# Altium integrated library Linear Technology PMIC-Switching Reg LTC1174-LTC3901.IntLib: 2647 symbols (part 301 of 310)
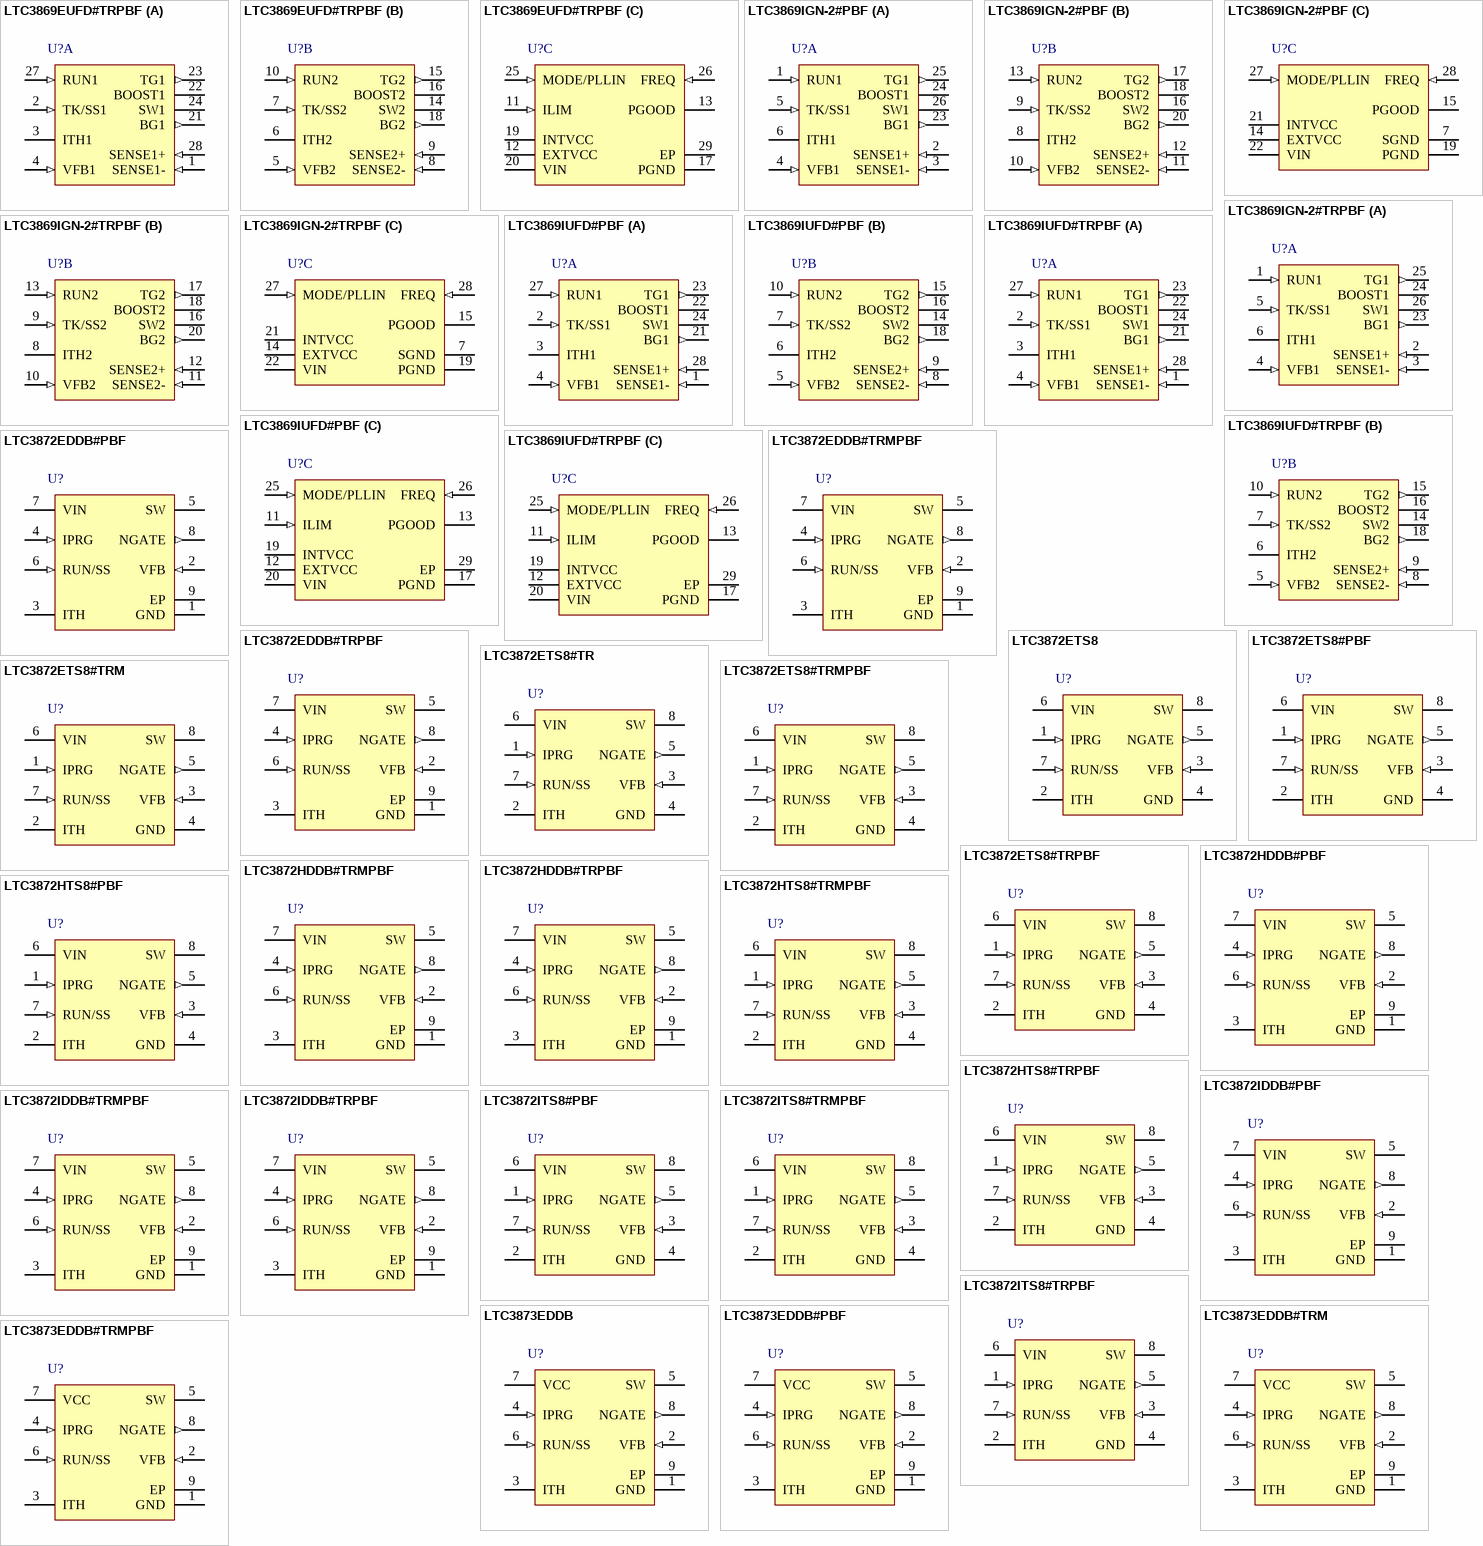
[diagram p398: symbols LTC3869EUFD#TRPBF to LTC3873EDDB#TRMPBF]

## LTC3872ITS8#PBF
designator U?
No Rsense Current Mode Boost DC/DC Controller, 8-pin SOT23 (TS8-8), -40 to 125 degC, Pb-Free; Manufacturer: Linear Technology; PartNumber: LTC3872ITS8#PBF; Number of Outputs: 1; PackageReference: TS8-8; PackageDescription: 8-Pin Plastic TSOT-23, Body 2.9 x 1.63 mm, Pitch 0.65 mm; Supplier 1: Newark; Supplier Part Number 1: 78T3274; RoHS: TRUE; Code_JEDEC: MO-193
footprint LT-TS8-8-TSOT-23_V (SOT23, 8-Leads, Body 2.9x1.75mm, Pitch 0.65mm)
pins: 1 IPRG (in) "Current Sense Limit Select Pin", 2 ITH "It serves as the error amplifier compensation point. Nominal voltage range for this pin is  0.7V to 1.9V.", 3 VFB (in) "Receives the feedback voltage from an  external resistor divider across the output.", 4 GND (power) "Ground. The exposed pad must be soldered to PCB ground for electrical  contact and rated thermal performance", 5 NGATE (out) "Gate Drive for the External N-Channel  MOSFET. This pin swings from 0V to VIN.", 6 VIN (power) "Supply Pin. This pin must be closely  decoupled to GND.", 7 RUN/SS (in) "Shutdown and external soft-start  pin. In shutdown, all functions are disabled and the NGATE  pin is held low.", 8 SW "Switch node connection to inductor and  current sense input pin through external slope compensation resistor. Normally, the external N-channel MOSFET’s  drain is connected to this pin."

## LTC3872ITS8#TRMPBF
designator U?
No Rsense Current Mode Boost DC/DC Controller, 8-pin SOT23 (TS8-8), -40 to 125 degC, Pb-Free, Mini Tape and Reel; Manufacturer: Linear Technology; PartNumber: LTC3872ITS8#TRMPBF; Number of Outputs: 1; PackageReference: TS8-8; PackageDescription: 8-Pin Plastic TSOT-23, Body 2.9 x 1.63 mm, Pitch 0.65 mm; Supplier 1: Digi-Key; Supplier Part Number 1: LTC3872ITS8#TRMPBF-ND; RoHS: TRUE; Code_JEDEC: MO-193
footprint LT-TS8-8-TSOT-23_V (SOT23, 8-Leads, Body 2.9x1.75mm, Pitch 0.65mm)
pins: 1 IPRG (in) "Current Sense Limit Select Pin", 2 ITH "It serves as the error amplifier compensation point. Nominal voltage range for this pin is  0.7V to 1.9V.", 3 VFB (in) "Receives the feedback voltage from an  external resistor divider across the output.", 4 GND (power) "Ground. The exposed pad must be soldered to PCB ground for electrical  contact and rated thermal performance", 5 NGATE (out) "Gate Drive for the External N-Channel  MOSFET. This pin swings from 0V to VIN.", 6 VIN (power) "Supply Pin. This pin must be closely  decoupled to GND.", 7 RUN/SS (in) "Shutdown and external soft-start  pin. In shutdown, all functions are disabled and the NGATE  pin is held low.", 8 SW "Switch node connection to inductor and  current sense input pin through external slope compensation resistor. Normally, the external N-channel MOSFET’s  drain is connected to this pin."

## LTC3872ITS8#TRPBF
designator U?
No Rsense Current Mode Boost DC/DC Controller, 8-pin SOT23 (TS8-8), -40 to 125 degC, Pb-Free, Tape and Reel; Manufacturer: Linear Technology; PartNumber: LTC3872ITS8#TRPBF; Number of Outputs: 1; PackageReference: TS8-8; PackageDescription: 8-Pin Plastic TSOT-23, Body 2.9 x 1.63 mm, Pitch 0.65 mm; Supplier 1: Digi-Key; Supplier Part Number 1: LTC3872ITS8#TRPBF-ND; RoHS: TRUE; Code_JEDEC: MO-193
footprint LT-TS8-8-TSOT-23_V (SOT23, 8-Leads, Body 2.9x1.75mm, Pitch 0.65mm)
pins: 1 IPRG (in) "Current Sense Limit Select Pin", 2 ITH "It serves as the error amplifier compensation point. Nominal voltage range for this pin is  0.7V to 1.9V.", 3 VFB (in) "Receives the feedback voltage from an  external resistor divider across the output.", 4 GND (power) "Ground. The exposed pad must be soldered to PCB ground for electrical  contact and rated thermal performance", 5 NGATE (out) "Gate Drive for the External N-Channel  MOSFET. This pin swings from 0V to VIN.", 6 VIN (power) "Supply Pin. This pin must be closely  decoupled to GND.", 7 RUN/SS (in) "Shutdown and external soft-start  pin. In shutdown, all functions are disabled and the NGATE  pin is held low.", 8 SW "Switch node connection to inductor and  current sense input pin through external slope compensation resistor. Normally, the external N-channel MOSFET’s  drain is connected to this pin."